# Altium footprint library WR-TBL_Wire Protector_5.00mm.PcbLib: 76 footprints (part 3 of 5)
Each footprint in its own frame and in the unit in brackets; x right, y up, seen from the top. Pads: shape width x height; smd on the part's side, far side on the other; paste and mask are expansions set on the pad; w line width, h text height; cw(c..) or ccw(c..) is an arc to the next point about the centre after c.
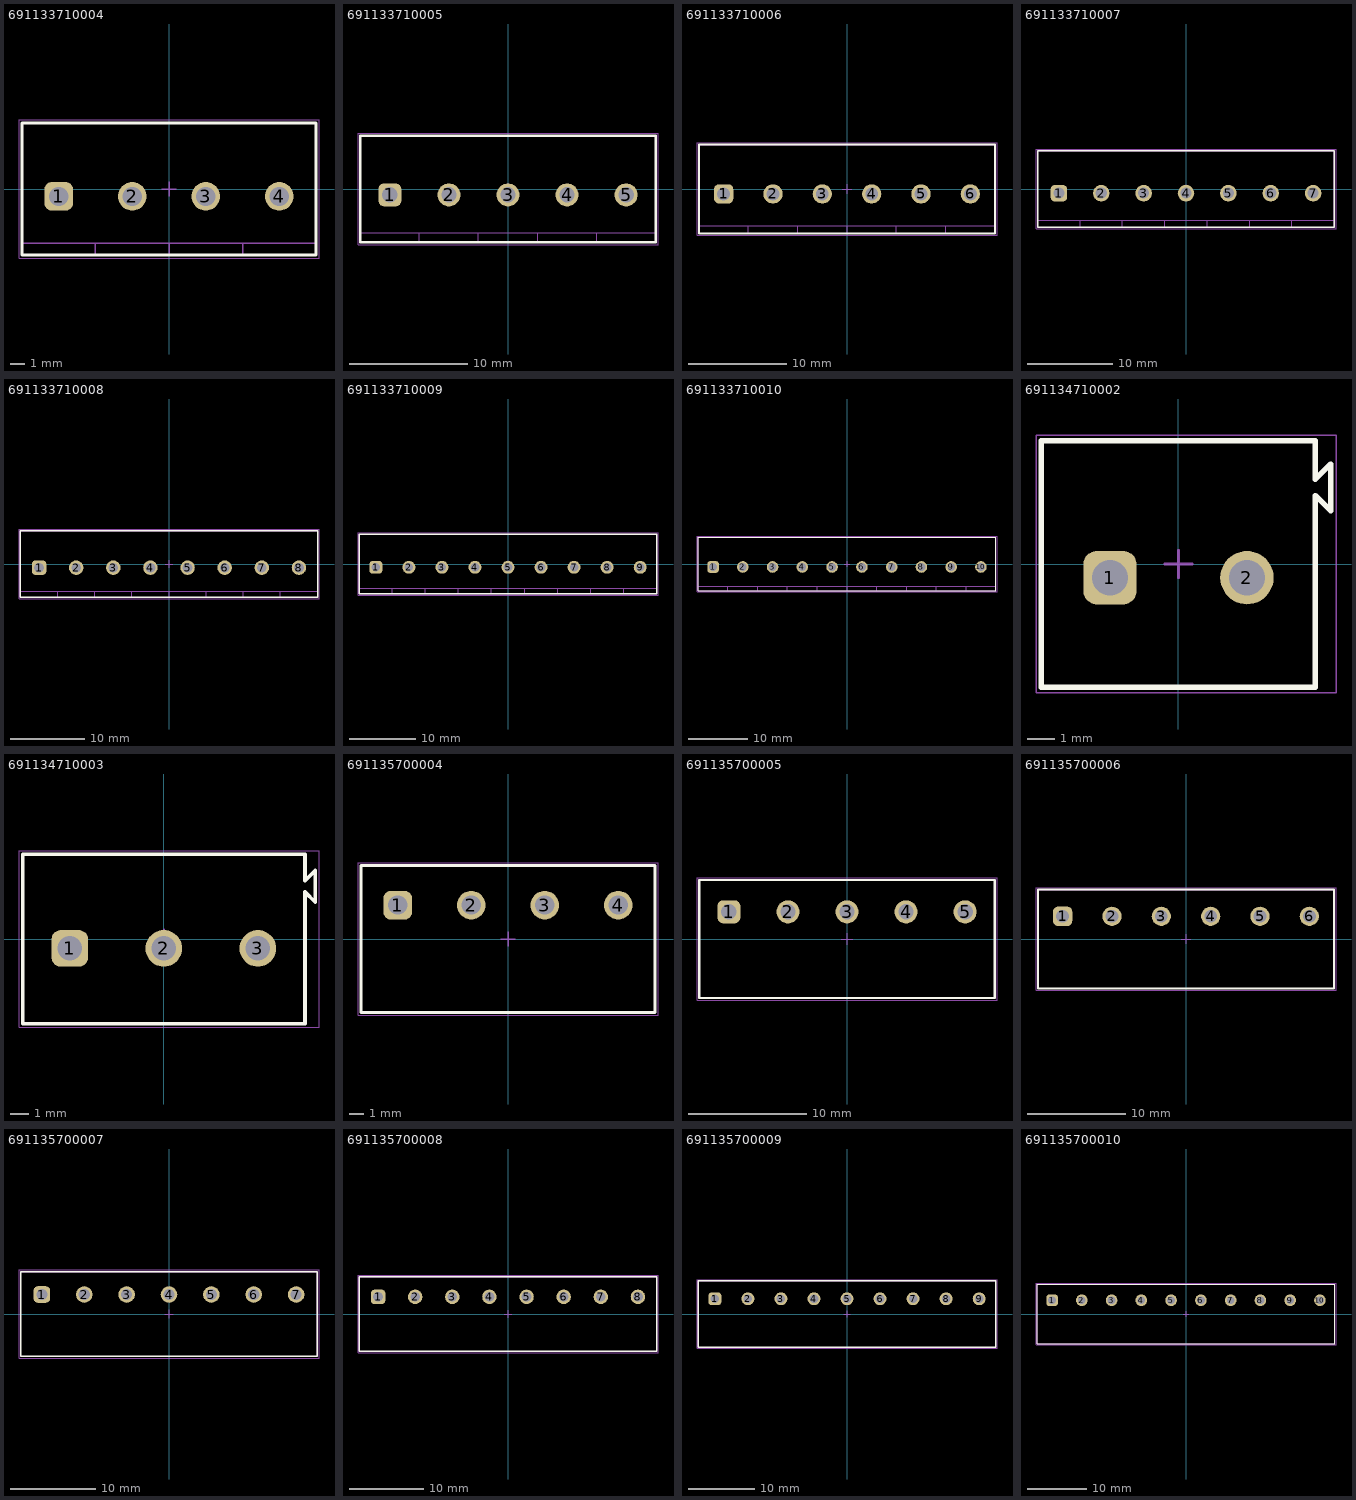
[diagram p2: the footprints below, top view; thin cyan lines are the x and y axes]

## 691133710004 [mm] "Serie 1337 - 5.00 mm_4 pins"
height 13
pads (4):
  rrect50% 1.95x1.95 hole 1.3: 1(-7.5,-0.5)
  round 1.95 hole 1.3: 2(-2.5,-0.5) 3(2.5,-0.5) 4(7.5,-0.5)
Top Overlay:
  lines w0.2: -10,-4.5 10,-4.5 10,4.5 -10,4.5 -10,-4.5
Top Assembly:
  lines w0.1: -10,-3.7 10,-3.7 ; -5,-4.5 -5,-3.7 ; 0,-4.5 0,-3.7 ; 5,-4.5 5,-3.7 ; -10,-4.5 -10,4.5 10,4.5 10,-4.5 -10,-4.5
Top Designator:
  text ".Designator" at -3.647,-0.357 h1
Top 3D Body:
  lines w0.1: -10,-3.7 10,-3.7 ; -5,-4.5 -5,-3.7 ; 0,-4.5 0,-3.7 ; 5,-4.5 5,-3.7 ; -10,-4.5 10,-4.5 10,4.5 -10,4.5 -10,-4.5
Top Courtyard:
  lines w0.05: -10.2,-4.7 10.2,-4.7 10.2,4.7 -10.2,4.7 -10.2,-4.7
Top Component Center:
  lines w0.1: -0.5,0 0.5,0 ; 0,-0.5 0,0.5
3D body "691133710004.stp": height 13.1, standoff -3.5, extent -10,-4.5 10,4.5

## 691133710005 [mm] "Serie 1337 - 5.00 mm_5 pins"
height 13
pads (5):
  rrect50% 1.95x1.95 hole 1.3: 1(-10,-0.5)
  round 1.95 hole 1.3: 2(-5,-0.5) 3(0,-0.5) 4(5,-0.5) 5(10,-0.5)
Top Overlay:
  lines w0.2: -12.5,-4.5 12.5,-4.5 12.5,4.5 -12.5,4.5 -12.5,-4.5
Top Assembly:
  lines w0.1: -12.5,-3.7 12.5,-3.7 ; -7.5,-4.5 -7.5,-3.7 ; -2.5,-4.5 -2.5,-3.7 ; 2.5,-4.5 2.5,-3.7 ; 7.5,-4.5 7.5,-3.7 ; -12.5,-4.5 -12.5,4.5 12.5,4.5 12.5,-4.5 -12.5,-4.5
Top Designator:
  text ".Designator" at -3.647,-0.357 h1
Top 3D Body:
  lines w0.1: -12.5,-3.7 12.5,-3.7 ; -7.5,-4.5 -7.5,-3.7 ; -2.5,-4.5 -2.5,-3.7 ; 2.5,-4.5 2.5,-3.7 ; 7.5,-4.5 7.5,-3.7 ; -12.5,-4.5 12.5,-4.5 12.5,4.5 -12.5,4.5 -12.5,-4.5
Top Courtyard:
  lines w0.05: -12.7,-4.7 12.7,-4.7 12.7,4.7 -12.7,4.7 -12.7,-4.7
Top Component Center:
  lines w0.1: -0.5,0 0.5,0 ; 0,-0.5 0,0.5
3D body "691133710005.stp": height 13.1, standoff -3.5, extent -12.5,-4.5 12.5,4.5

## 691133710006 [mm] "Serie 1337 - 5.00 mm_6 pins"
height 13
pads (6):
  rrect50% 1.95x1.95 hole 1.3: 1(-12.5,-0.5)
  round 1.95 hole 1.3: 2(-7.5,-0.5) 3(-2.5,-0.5) 4(2.5,-0.5) 5(7.5,-0.5) 6(12.5,-0.5)
Top Overlay:
  lines w0.2: -15,-4.5 -15,4.5 15,4.5 15,-4.5 -15,-4.5
Top Assembly:
  lines w0.1: -15,-3.7 15,-3.7 ; -10,-4.5 -10,-3.7 ; -5,-4.5 -5,-3.7 ; 0,-4.5 0,-3.7 ; 5,-4.5 5,-3.7 ; 10,-4.5 10,-3.7 ; -15,-4.5 15,-4.5 15,4.5 -15,4.5 -15,-4.5
Top Designator:
  text ".Designator" at -3.647,-0.357 h1
Top 3D Body:
  lines w0.1: -15,-3.7 15,-3.7 ; -10,-4.5 -10,-3.7 ; -5,-4.5 -5,-3.7 ; 0,-4.5 0,-3.7 ; 5,-4.5 5,-3.7 ; 10,-4.5 10,-3.7 ; -15,-4.5 -15,4.5 15,4.5 15,-4.5 -15,-4.5
Top Courtyard:
  lines w0.05: -15.2,-4.7 -15.2,4.7 15.2,4.7 15.2,-4.7 -15.2,-4.7
Top Component Center:
  lines w0.1: -0.5,0 0.5,0 ; 0,-0.5 0,0.5
3D body "691133710006.stp": height 13.1, standoff -3.5, extent -15,-4.5 15,4.5

## 691133710007 [mm] "Serie 1337 - 5.00 mm_7 pins"
height 13
pads (7):
  rrect50% 1.95x1.95 hole 1.3: 1(-15,-0.5)
  round 1.95 hole 1.3: 2(-10,-0.5) 3(-5,-0.5) 4(0,-0.5) 5(5,-0.5) 6(10,-0.5) 7(15,-0.5)
Top Overlay:
  lines w0.2: -17.5,-4.5 17.5,-4.5 17.5,4.5 -17.5,4.5 -17.5,-4.5
Top Assembly:
  lines w0.1: -17.5,-3.7 17.5,-3.7 ; -12.5,-4.5 -12.5,-3.7 ; -7.5,-4.5 -7.5,-3.7 ; -2.5,-4.5 -2.5,-3.7 ; 2.5,-4.5 2.5,-3.7 ; 7.5,-4.5 7.5,-3.7 ; 12.5,-4.5 12.5,-3.7 ; -17.5,-4.5 -17.5,4.5 17.5,4.5 17.5,-4.5 -17.5,-4.5
Top Designator:
  text ".Designator" at -3.647,-0.357 h1
Top 3D Body:
  lines w0.1: -17.5,-3.7 17.5,-3.7 ; -12.5,-4.5 -12.5,-3.7 ; -7.5,-4.5 -7.5,-3.7 ; -2.5,-4.5 -2.5,-3.7 ; 2.5,-4.5 2.5,-3.7 ; 7.5,-4.5 7.5,-3.7 ; 12.5,-4.5 12.5,-3.7 ; -17.5,-4.5 17.5,-4.5 17.5,4.5 -17.5,4.5 -17.5,-4.5
Top Courtyard:
  lines w0.05: -17.7,-4.7 17.7,-4.7 17.7,4.7 -17.7,4.7 -17.7,-4.7
Top Component Center:
  lines w0.1: -0.5,0 0.5,0 ; 0,-0.5 0,0.5
3D body "691133710007.stp": height 13.1, standoff -3.5, extent -17.5,-4.5 17.5,4.5

## 691133710008 [mm] "Serie 1337 - 5.00 mm_8 pins"
height 13
pads (8):
  rrect50% 1.95x1.95 hole 1.3: 1(-17.5,-0.5)
  round 1.95 hole 1.3: 2(-12.5,-0.5) 3(-7.5,-0.5) 4(-2.5,-0.5) 5(2.5,-0.5) 6(7.5,-0.5) 7(12.5,-0.5) 8(17.5,-0.5)
Top Overlay:
  lines w0.2: -20,-4.5 -20,4.5 20,4.5 20,-4.5 -20,-4.5
Top Assembly:
  lines w0.1: -20,-3.7 20,-3.7 ; -15,-4.5 -15,-3.7 ; -10,-4.5 -10,-3.7 ; -5,-4.5 -5,-3.7 ; 0,-4.5 0,-3.7 ; 5,-4.5 5,-3.7 ; 10,-4.5 10,-3.7 ; 15,-4.5 15,-3.7 ; -20,-4.5 20,-4.5 20,4.5 -20,4.5 -20,-4.5
Top Designator:
  text ".Designator" at -3.647,-0.357 h1
Top 3D Body:
  lines w0.1: -20,-3.7 20,-3.7 ; -15,-4.5 -15,-3.7 ; -10,-4.5 -10,-3.7 ; -5,-4.5 -5,-3.7 ; 0,-4.5 0,-3.7 ; 5,-4.5 5,-3.7 ; 10,-4.5 10,-3.7 ; 15,-4.5 15,-3.7 ; -20,-4.5 -20,4.5 20,4.5 20,-4.5 -20,-4.5
Top Courtyard:
  lines w0.05: -20.2,-4.7 -20.2,4.7 20.2,4.7 20.2,-4.7 -20.2,-4.7
Top Component Center:
  lines w0.1: -0.5,0 0.5,0 ; 0,-0.5 0,0.5
3D body "691133710008.stp": height 13.1, standoff -3.5, extent -20,-4.5 20,4.5

## 691133710009 [mm] "Serie 1337 - 5.00 mm_9 pins"
height 13
pads (9):
  rrect50% 1.95x1.95 hole 1.3: 1(-20,-0.5)
  round 1.95 hole 1.3: 2(-15,-0.5) 3(-10,-0.5) 4(-5,-0.5) 5(0,-0.5) 6(5,-0.5) 7(10,-0.5) 8(15,-0.5) 9(20,-0.5)
Top Overlay:
  lines w0.2: -22.5,-4.5 -22.5,4.5 22.5,4.5 22.5,-4.5 -22.5,-4.5
Top Assembly:
  lines w0.1: -22.5,-3.7 22.5,-3.7 ; -17.5,-4.5 -17.5,-3.7 ; -12.5,-4.5 -12.5,-3.7 ; -7.5,-4.5 -7.5,-3.7 ; -2.5,-4.5 -2.5,-3.7 ; 2.5,-4.5 2.5,-3.7 ; 7.5,-4.5 7.5,-3.7 ; 12.5,-4.5 12.5,-3.7 ; 17.5,-4.5 17.5,-3.7 ; -22.5,-4.5 22.5,-4.5 22.5,4.5 -22.5,4.5 -22.5,-4.5
Top Designator:
  text ".Designator" at -3.647,-0.357 h1
Top 3D Body:
  lines w0.1: -22.5,-3.7 22.5,-3.7 ; -17.5,-4.5 -17.5,-3.7 ; -12.5,-4.5 -12.5,-3.7 ; -7.5,-4.5 -7.5,-3.7 ; -2.5,-4.5 -2.5,-3.7 ; 2.5,-4.5 2.5,-3.7 ; 7.5,-4.5 7.5,-3.7 ; 12.5,-4.5 12.5,-3.7 ; 17.5,-4.5 17.5,-3.7 ; -22.5,-4.5 -22.5,4.5 22.5,4.5 22.5,-4.5 -22.5,-4.5
Top Courtyard:
  lines w0.05: -22.7,-4.7 -22.7,4.7 22.7,4.7 22.7,-4.7 -22.7,-4.7
Top Component Center:
  lines w0.1: -0.5,0 0.5,0 ; 0,-0.5 0,0.5
3D body "691133710009.stp": height 13.1, standoff -3.5, extent -22.5,-4.5 22.5,4.5

## 691133710010 [mm] "Serie 1337 - 5.00 mm_10 pins"
height 13
pads (10):
  rrect50% 1.95x1.95 hole 1.3: 1(-22.5,-0.5)
  round 1.95 hole 1.3: 2(-17.5,-0.5) 3(-12.5,-0.5) 4(-7.5,-0.5) 5(-2.5,-0.5) 6(2.5,-0.5) 7(7.5,-0.5) 8(12.5,-0.5) 9(17.5,-0.5) 10(22.5,-0.5)
Top Overlay:
  lines w0.2: -25,-4.5 -25,4.5 25,4.5 25,-4.5 -25,-4.5
Top Assembly:
  lines w0.1: -25,-3.7 25,-3.7 ; -20,-4.5 -20,-3.7 ; -15,-4.5 -15,-3.7 ; -10,-4.5 -10,-3.7 ; -5,-4.5 -5,-3.7 ; 0,-4.5 0,-3.7 ; 5,-4.5 5,-3.7 ; 10,-4.5 10,-3.7 ; 15,-4.5 15,-3.7 ; 20,-4.5 20,-3.7 ; -25,-4.5 25,-4.5 25,4.5 -25,4.5 -25,-4.5
Top Designator:
  text ".Designator" at -3.647,-0.357 h1
Top 3D Body:
  lines w0.1: -25,-3.7 25,-3.7 ; -20,-4.5 -20,-3.7 ; -15,-4.5 -15,-3.7 ; -10,-4.5 -10,-3.7 ; -5,-4.5 -5,-3.7 ; 0,-4.5 0,-3.7 ; 5,-4.5 5,-3.7 ; 10,-4.5 10,-3.7 ; 15,-4.5 15,-3.7 ; 20,-4.5 20,-3.7 ; -25,-4.5 -25,4.5 25,4.5 25,-4.5 -25,-4.5
Top Courtyard:
  lines w0.05: -25.2,-4.7 -25.2,4.7 25.2,4.7 25.2,-4.7 -25.2,-4.7
Top Component Center:
  lines w0.1: -0.5,0 0.5,0 ; 0,-0.5 0,0.5
3D body "691133710010.stp": height 13.1, standoff -3.5, extent -25,-4.5 25,4.5

## 691134710002 [mm] "Serie 1347 - 5.00 mm_2 pins"
height 13
pads (2):
  rrect50% 1.95x1.95 hole 1.3: 1(-2.5,-0.5)
  round 1.95 hole 1.3: 2(2.5,-0.5)
Top Overlay:
  lines w0.2: -5,-4.5 -5,4.5 5,4.5 5,3.1 5.55,3.65 5.55,1.95 5,2.5 5,-4.5 -5,-4.5
Top Assembly:
  lines w0.1: -5,-4.5 5,-4.5 5,2.5 5.55,1.95 5.55,3.65 5,3.1 5,4.5 -5,4.5 -5,-4.5
Top Designator:
  text ".Designator" at -3.647,-0.357 h1
Top 3D Body:
  lines w0.1: -5,-4.5 -5,4.5 5,4.5 5,3.1 5.55,3.65 5.55,1.95 5,2.5 5,-4.5 -5,-4.5
Top Courtyard:
  lines w0.05: -5.2,-4.7 -5.2,4.7 5.75,4.7 5.75,-4.7 -5.2,-4.7
Top Component Center:
  lines w0.1: -0.5,0 0.5,0 ; 0,-0.5 0,0.5
3D body "691134710002.stp": height 13.1, standoff -3.9, extent -5,-4.5 5.55,4.5

## 691134710003 [mm] "Serie 1347 - 5.00 mm_3 pins"
height 13
pads (3):
  rrect50% 1.95x1.95 hole 1.3: 1(-5,-0.5)
  round 1.95 hole 1.3: 2(0,-0.5) 3(5,-0.5)
Top Overlay:
  lines w0.2: -7.5,-4.5 -7.5,4.5 7.5,4.5 7.5,3.1 8.05,3.65 8.05,1.95 7.5,2.5 7.5,-4.5 -7.5,-4.5
Top Assembly:
  lines w0.1: -7.5,-4.5 7.5,-4.5 7.5,2.5 8.05,1.95 8.05,3.65 7.5,3.1 7.5,4.5 -7.5,4.5 -7.5,-4.5
Top Designator:
  text ".Designator" at -3.647,-0.357 h1
Top 3D Body:
  lines w0.1: -7.5,-4.5 -7.5,4.5 7.5,4.5 7.5,3.1 8.05,3.65 8.05,1.95 7.5,2.5 7.5,-4.5 -7.5,-4.5
Top Courtyard:
  lines w0.05: -7.7,-4.7 -7.7,4.7 8.25,4.7 8.25,-4.7 -7.7,-4.7
Top Component Center:
  lines w0.1: -0.5,0 0.5,0 ; 0,-0.5 0,0.5
3D body "691134710003.stp": height 13.1, standoff -3.9, extent -7.5,-4.5 8.05,4.5

## 691135700004 [mm] "Serie 1357 - 5.00 mm _ 4 pins"
height 7.5
pads (4):
  rrect50% 1.95x1.95 hole 1.3: 1(-7.5,2.3)
  round 1.95 hole 1.3: 2(-2.5,2.3) 3(2.5,2.3) 4(7.5,2.3)
Top Overlay:
  lines w0.2: -10,-5 -10,5 10,5 10,-5 -10,-5
Top Assembly:
  lines w0.1: -10,-5 10,-5 10,5 -10,5 -10,-5
Top Designator:
  text ".Designator" at -3.647,-0.357 h1
Top 3D Body:
  lines w0.1: -10,-5 -10,5 10,5 10,-5 -10,-5
Top Courtyard:
  lines w0.05: -10.2,-5.2 -10.2,5.2 10.2,5.2 10.2,-5.2 -10.2,-5.2
Top Component Center:
  lines w0.1: -0.5,0 0.5,0 ; 0,-0.5 0,0.5
3D body "691135700004.stp": height 7.6, standoff -3.6, extent -10,-5 10,5

## 691135700005 [mm] "Serie 1357 - 5.00 mm _ 5 pins"
height 7.5
pads (5):
  rrect50% 1.95x1.95 hole 1.3: 1(-10,2.3)
  round 1.95 hole 1.3: 2(-5,2.3) 3(0,2.3) 4(5,2.3) 5(10,2.3)
Top Overlay:
  lines w0.2: -12.5,-5 12.5,-5 12.5,5 -12.5,5 -12.5,-5
Top Assembly:
  lines w0.1: -12.5,-5 -12.5,5 12.5,5 12.5,-5 -12.5,-5
Top Designator:
  text ".Designator" at -3.647,-0.357 h1
Top 3D Body:
  lines w0.1: -12.5,-5 12.5,-5 12.5,5 -12.5,5 -12.5,-5
Top Courtyard:
  lines w0.05: -12.7,-5.2 12.7,-5.2 12.7,5.2 -12.7,5.2 -12.7,-5.2
Top Component Center:
  lines w0.1: -0.5,0 0.5,0 ; 0,-0.5 0,0.5
3D body "691135700005.stp": height 7.6, standoff -3.6, extent -12.5,-5 12.5,5

## 691135700006 [mm] "Serie 1357 - 5.00 mm _ 6 pins"
height 7.5
pads (6):
  rrect50% 1.95x1.95 hole 1.3: 1(-12.5,2.3)
  round 1.95 hole 1.3: 2(-7.5,2.3) 3(-2.5,2.3) 4(2.5,2.3) 5(7.5,2.3) 6(12.5,2.3)
Top Overlay:
  lines w0.2: -15,-5 -15,5 15,5 15,-5 -15,-5
Top Assembly:
  lines w0.1: -15,-5 15,-5 15,5 -15,5 -15,-5
Top Designator:
  text ".Designator" at -3.647,-0.357 h1
Top 3D Body:
  lines w0.1: -15,-5 -15,5 15,5 15,-5 -15,-5
Top Courtyard:
  lines w0.05: -15.2,-5.2 -15.2,5.2 15.2,5.2 15.2,-5.2 -15.2,-5.2
Top Component Center:
  lines w0.1: -0.5,0 0.5,0 ; 0,-0.5 0,0.5
3D body "691135700006.stp": height 7.6, standoff -3.6, extent -15,-5 15,5

## 691135700007 [mm] "Serie 1357 - 5.00 mm _ 7 pins"
height 7.5
pads (7):
  rrect50% 1.95x1.95 hole 1.3: 1(-15,2.3)
  round 1.95 hole 1.3: 2(-10,2.3) 3(-5,2.3) 4(0,2.3) 5(5,2.3) 6(10,2.3) 7(15,2.3)
Top Overlay:
  lines w0.2: -17.5,-5 17.5,-5 17.5,5 -17.5,5 -17.5,-5
Top Assembly:
  lines w0.1: -17.5,-5 -17.5,5 17.5,5 17.5,-5 -17.5,-5
Top Designator:
  text ".Designator" at -3.647,-0.357 h1
Top 3D Body:
  lines w0.1: -17.5,-5 17.5,-5 17.5,5 -17.5,5 -17.5,-5
Top Courtyard:
  lines w0.05: -17.7,-5.2 17.7,-5.2 17.7,5.2 -17.7,5.2 -17.7,-5.2
Top Component Center:
  lines w0.1: -0.5,0 0.5,0 ; 0,-0.5 0,0.5
3D body "691135700007.stp": height 7.6, standoff -3.6, extent -17.5,-5 17.5,5

## 691135700008 [mm] "Serie 1357 - 5.00 mm _ 8 pins"
height 7.5
pads (8):
  rrect50% 1.95x1.95 hole 1.3: 1(-17.5,2.3)
  round 1.95 hole 1.3: 2(-12.5,2.3) 3(-7.5,2.3) 4(-2.5,2.3) 5(2.5,2.3) 6(7.5,2.3) 7(12.5,2.3) 8(17.5,2.3)
Top Overlay:
  lines w0.2: -20,-5 -20,5 20,5 20,-5 -20,-5
Top Assembly:
  lines w0.1: -20,-5 20,-5 20,5 -20,5 -20,-5
Top Designator:
  text ".Designator" at -3.647,-0.357 h1
Top 3D Body:
  lines w0.1: -20,-5 -20,5 20,5 20,-5 -20,-5
Top Courtyard:
  lines w0.05: -20.2,-5.2 -20.2,5.2 20.2,5.2 20.2,-5.2 -20.2,-5.2
Top Component Center:
  lines w0.1: -0.5,0 0.5,0 ; 0,-0.5 0,0.5
3D body "691135700008.stp": height 7.6, standoff -3.6, extent -20,-5 20,5

## 691135700009 [mm] "Serie 1357 - 5.00 mm _ 9 pins"
height 7.5
pads (9):
  rrect50% 1.95x1.95 hole 1.3: 1(-20,2.3)
  round 1.95 hole 1.3: 2(-15,2.3) 3(-10,2.3) 4(-5,2.3) 5(0,2.3) 6(5,2.3) 7(10,2.3) 8(15,2.3) 9(20,2.3)
Top Overlay:
  lines w0.2: -22.5,-5 22.5,-5 22.5,5 -22.5,5 -22.5,-5
Top Assembly:
  lines w0.1: -22.5,-5 -22.5,5 22.5,5 22.5,-5 -22.5,-5
Top Designator:
  text ".Designator" at -3.647,-0.357 h1
Top 3D Body:
  lines w0.1: -22.5,-5 22.5,-5 22.5,5 -22.5,5 -22.5,-5
Top Courtyard:
  lines w0.05: -22.7,-5.2 22.7,-5.2 22.7,5.2 -22.7,5.2 -22.7,-5.2
Top Component Center:
  lines w0.1: -0.5,0 0.5,0 ; 0,-0.5 0,0.5
3D body "691135700009.stp": height 7.6, standoff -3.6, extent -22.5,-5 22.5,5

## 691135700010 [mm] "Serie 1357 - 5.00 mm _ 10 pins"
height 7.5
pads (10):
  rrect50% 1.95x1.95 hole 1.3: 1(-22.5,2.3)
  round 1.95 hole 1.3: 2(-17.5,2.3) 3(-12.5,2.3) 4(-7.5,2.3) 5(-2.5,2.3) 6(2.5,2.3) 7(7.5,2.3) 8(12.5,2.3) 9(17.5,2.3) 10(22.5,2.3)
Top Overlay:
  lines w0.2: -25,-5 -25,5 25,5 25,-5 -25,-5
Top Assembly:
  lines w0.1: -25,-5 25,-5 25,5 -25,5 -25,-5
Top Designator:
  text ".Designator" at -3.647,-0.357 h1
Top 3D Body:
  lines w0.1: -25,-5 -25,5 25,5 25,-5 -25,-5
Top Courtyard:
  lines w0.05: -25.2,-5.2 -25.2,5.2 25.2,5.2 25.2,-5.2 -25.2,-5.2
Top Component Center:
  lines w0.1: -0.5,0 0.5,0 ; 0,-0.5 0,0.5
3D body "691135700010.stp": height 7.6, standoff -3.6, extent -25,-5 25,5